# Altium integrated library Infineon_Power_MOSFET.IntLib: 1448 symbols (part 23 of 47)
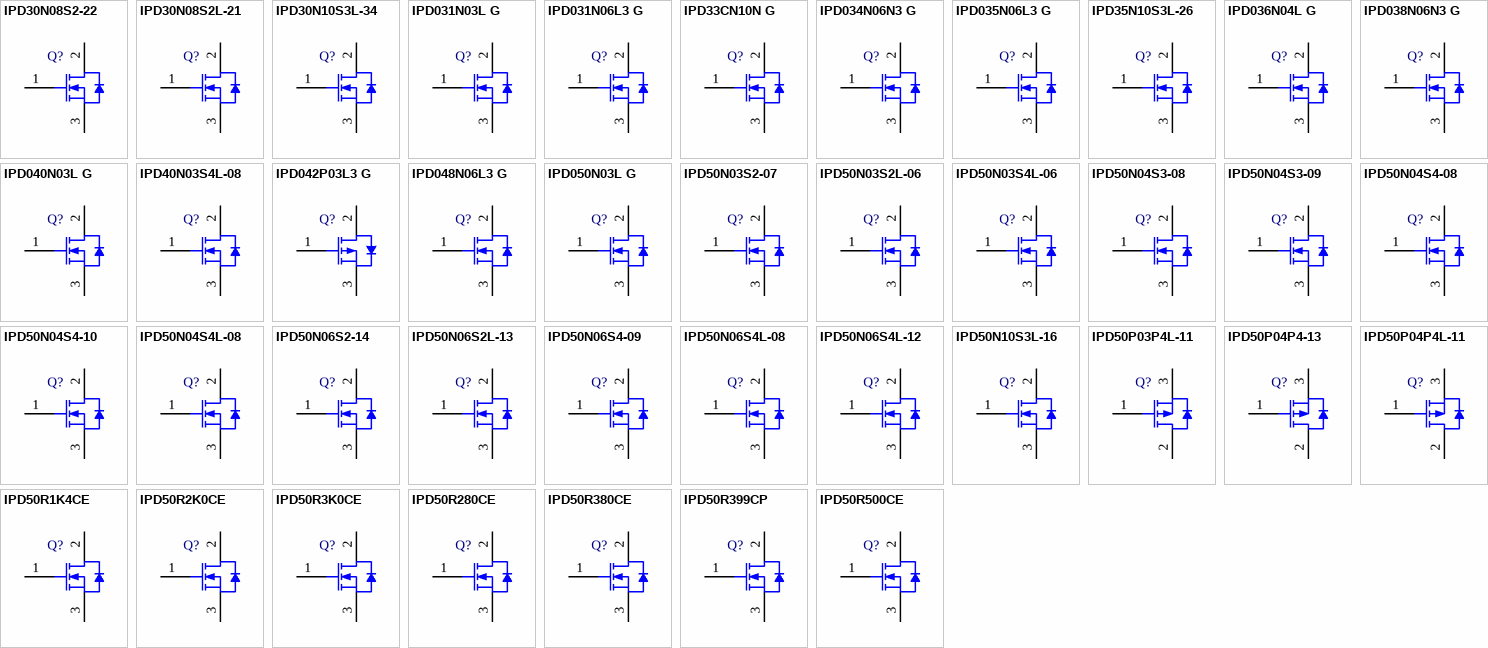
[diagram p59: symbols IPD30N08S2-22 to IPD50R500CE]

## IPD042P03L3 G
designator Q?
P-Channel OptiMOS P3 Power-Transistor, -30 V VDS, -70 A ID, -55 to 175 degC, PG-TO252-3-1, Reel, Green; Manufacturer: Infineon; PartNumber: IPD042P03L3 G; Green: TRUE; ID (max): -70 A; IDpuls (max): -280 A; Pto t (max): 150 W; QG: 131 nC; RDS (on) (max): 4.2 mOhm; RDS (on) (max) (@4.5V): 6.8 mOhm; Rth: 1 K/W; VDS (max): -30 V; VGS(th) (max): -1 V; VGS(th) (min): -2 V; DatasheetVersion: Rev. 2.0; PackageVersion: Jan-10; PackageReference: PG-TO252-3-1; PackageDescription: 3-Pin Plastic (Green) Transistor Single Outline Package, 6.5 x 6.12 mm Body, 2.28 mm Pitch; Supplier 1: Mouser; Supplier Part Number 1: 726-IPD042P03L3G; Supplier 2: Newark; Supplier Part Number 2: 79X1434; Supplier 3: Farnell; Supplier Part Number 3: 2432727; Supplier 4: Digi-Key; Supplier Part Number 4: IPD042P03L3 GTR-ND; Supplier 5: Digi-Key; Supplier Part Number 5: IPD042P03L3 GCT-ND; Supplier 6: Digi-Key; Supplier Part Number 6: IPD042P03L3 GDKR-ND; Packing: Reel; RthJC (max): 1 K/W; Mounting Technology: Surface Mount; ComponentLink1Description: Manufacturer URL; ComponentLink1URL: http://www.infineon.com/; ComponentLink2Description: Datasheet; ComponentLink2URL: http://www.infineon.com/dgdl/IPD042P03L3+G_2+0.pdf?folderId=db3a304314dca38901154a72e3951a65&fileId=db3a30431d8a6b3c011d90c8c6e60425; ComponentLink3Description: Package Specification; ComponentLink3URL: http://www.infineon.com/dgdl/TLE42744_DS_11.pdf?folderId=db3a304318f3fe290118f5a433570040&fileId=db3a304327b897500128012ccafe37d2&sId=db3a30443d67b5ca013d83f7c0ea327b
footprint INF-PG-TO252-3-1_N (DPAK, 3-Leads, Body 6.525x6.12mm, Pitch 2.28mm, IPC Medium Density)
footprint INF-PG-TO252-3-1_L (DPAK, 3-Leads, Body 6.525x6.12mm, Pitch 2.28mm, IPC High Density)
footprint INF-PG-TO252-3-1_M (DPAK, 3-Leads, Body 6.525x6.12mm, Pitch 2.28mm, IPC Low Density)
pins: 1 GATE, 2 DRAIN, 3 SOURCE

## IPD048N06L3 G
designator Q?
N-Channel OptiMOS 3 Power-Transistor, 60 V VDS, 90 A ID, -55 to 175 degC, PG-TO252-3-11, Reel, Green; Manufacturer: Infineon; PartNumber: IPD048N06L3 G; Green: TRUE; ID (max): 90 A; IDpuls (max): 360 A; Polarity: N; Ptot (max): 115 W; QG: 37 nC; RDS (on) (max): 4.8 mOhm; RDS (on) (max) (@4.5V): 8.2 mOhm; Rth: 1.3 K/W; RthJA (max): 62 K/W; VDS (max): 60 V; VGS(th) (max): 2.2 V; VGS(th) (min): 1.2 V; DatasheetVersion: Rev. 2.0; PackageVersion: Rev. 02, 03/2007; PackageReference: PG-TO252-3-11; PackageDescription: 3-Pin Plastic (Green) Transistor Single Outline Package, 6.57 x 6.1 mm Body, 2.29 mm Pitch; Supplier 1: Mouser; Supplier Part Number 1: 726-IPD048N06L3G; Supplier 2: Digi-Key; Supplier Part Number 2: IPD048N06L3 G-ND; Packing: Reel; RthJC (max): 1.3 K/W; Mounting Technology: Surface Mount; ComponentLink1Description: Manufacturer URL; ComponentLink1URL: http://www.infineon.com/; ComponentLink2Description: Datasheet; ComponentLink2URL: http://www.infineon.com/dgdl/IPD048N06L3_Rev2.pdf?folderId=db3a30431441fb5d01148ca9f1be0e77&fileId=db3a30431ddc9372011e2b4f496e4db0; ComponentLink3Description: Package Specification; ComponentLink3URL: http://www.infineon.com/dgdl/IPD160N04L_rev1.0.pdf?folderId=db3a3043163797a6011643468e7505a4&fileId=db3a3043163797a60116436401cf05cf
footprint INF-PG-TO252-3-11_A_N (DPAK, 3-Leads, Body 6.57x6.1mm, Pitch 2.29mm, IPC Medium Density)
footprint INF-PG-TO252-3-11_A_L (DPAK, 3-Leads, Body 6.57x6.1mm, Pitch 2.29mm, IPC High Density)
footprint INF-PG-TO252-3-11_A_M (DPAK, 3-Leads, Body 6.57x6.1mm, Pitch 2.29mm, IPC Low Density)
pins: 1 GATE, 2 DRAIN, 3 SOURCE

## IPD050N03L G
designator Q?
N-Channel OptiMOS 3 Power-Transistor, 30 V VDS, 50 A ID, -55 to 175 degC, PG-TO252-3-11, Reel, Green; Manufacturer: Infineon; PartNumber: IPD050N03L G; Green: TRUE; ID (max): 50 A; IDpuls (max): 350 A; Polarity: N; Ptot (max): 68 W; QG: 15 nC; RDS (on) (max): 5 mOhm; RDS (on) (max) (@4.5V): 7.3 mOhm; Rth: 2.2 K/W; RthJA (max): 75 K/W; VDS (max): 30 V; VGS(th) (max): 2.2 V; VGS(th) (min): 1 V; DatasheetVersion: Rev. 1.02; PackageVersion: Rev. 02, 03/2007; PackageReference: PG-TO252-3-11; PackageDescription: 3-Pin Plastic (Green) Transistor Single Outline Package, 6.57 x 6.1 mm Body, 2.29 mm Pitch; Supplier 1: Mouser; Supplier Part Number 1: 726-IPD050N03LG; Supplier 2: Digi-Key; Supplier Part Number 2: IPD050N03LGINTR-ND; Supplier 3: Digi-Key; Supplier Part Number 3: IPD050N03LGINCT-ND; Supplier 4: Digi-Key; Supplier Part Number 4: IPD050N03LGINDKR-ND; Halogen-free: TRUE; Packing: Reel; RthJC (max): 2.2 K/W; Mounting Technology: Surface Mount; ComponentLink1Description: Manufacturer URL; ComponentLink1URL: http://www.infineon.com/; ComponentLink2Description: Datasheet; ComponentLink2URL: http://www.infineon.com/dgdl/IPD050N03LG_rev1%5B1%5D2.pdf?folderId=db3a304313b8b5a60113cee8763b02d7&fileId=db3a30432313ff5e01239e47dbfe701f; ComponentLink3Description: Package Specification; ComponentLink3URL: http://www.infineon.com/dgdl/IPD160N04L_rev1.0.pdf?folderId=db3a3043163797a6011643468e7505a4&fileId=db3a3043163797a60116436401cf05cf
footprint INF-PG-TO252-3-11_A_N (DPAK, 3-Leads, Body 6.57x6.1mm, Pitch 2.29mm, IPC Medium Density)
footprint INF-PG-TO252-3-11_A_L (DPAK, 3-Leads, Body 6.57x6.1mm, Pitch 2.29mm, IPC High Density)
footprint INF-PG-TO252-3-11_A_M (DPAK, 3-Leads, Body 6.57x6.1mm, Pitch 2.29mm, IPC Low Density)
pins: 1 GATE, 2 DRAIN, 3 SOURCE

## IPD50N03S2-07
designator Q?
OptiMOS Power-Transistor, 30 V VDS, 50 A ID, PG-TO252-3-11, Reel, Green; Manufacturer: Infineon; PartNumber: IPD50N03S2-07; Green: TRUE; ID (max): 50 A; IDpuls (max): 200 A; Ptot (max): 136 W; QG: 52 nC; RDS (on) (max) (@10V): 7.3 mOhm; RthJC (max): 1.1 K/W; VDS (max): 30 V; VGS(th) (max): 4 V; VGS(th) (min): 2.1 V; DatasheetVersion: Rev. 1.0; PackageVersion: Dec-06; PackageReference: PG-TO252-3-11; PackageDescription: 3-Pin Plastic (Green) Transistor Single Outline Package, 6.5 x 6.12 mm Body, 2.28 mm Pitch; Supplier 1: Mouser; Supplier Part Number 1: 726-IPD50N03S2-07; Supplier 2: Digi-Key; Supplier Part Number 2: IPD50N03S2-07-ND; Halogen-free: TRUE; Packing: Reel; Technology: OptiMOS; Mounting Technology: Surface Mount; ComponentLink1Description: Manufacturer URL; ComponentLink1URL: http://www.infineon.com/; ComponentLink2Description: Datasheet; ComponentLink2URL: http://www.infineon.com/dgdl/IPD50N03S2-07_green.pdf?folderId=db3a304412b407950112b426f7da3b27&fileId=db3a304412b407950112b4270d5a3b72&location=en.Products.Automotive_ICs.Automotive_MOSFETs.Single__N-Channel_30V_MOSFETs.DATASHEET.IPD50N03S2-07_green.pdf; ComponentLink3Description: Package Specification; ComponentLink3URL: http://www.infineon.com/dgdl/BTS142_DS_13.pdf?folderId=db3a3043163797a6011667aa084c0e01&fileId=db3a3043163797a6011667ac98be0e02&location=en.Products.Automotive_ICs.Smart_High-_and_Low-Side_Switches.HITFET___TEMPFET__-_Smart_Low-Side_Switches.DATASHEET.BTS142_DS_13.pdf
footprint INF-PG-TO252-3-11_N (DPAK, 3-Leads, Body 6.5x6.12mm, Pitch 2.28mm, IPC Medium Density)
footprint INF-PG-TO252-3-11_L (DPAK, 3-Leads, Body 6.5x6.12mm, Pitch 2.28mm, IPC High Density)
footprint INF-PG-TO252-3-11_M (DPAK, 3-Leads, Body 6.5x6.12mm, Pitch 2.28mm, IPC Low Density)
pins: 1 GATE, 2 DRAIN, 3 SOURCE

## IPD50N03S2L-06
designator Q?
OptiMOS Power-Transistor, 30 V VDS, 50 A ID, PG-TO252-3-11, Reel, Green; Manufacturer: Infineon; PartNumber: IPD50N03S2L-06; Green: TRUE; ID (max): 50 A; IDpuls (max): 200 A; Ptot (max): 136 W; QG: 50 nC; RDS (on) (max) (@10V): 6.4 mOhm; RDS (on) (max) (@4.5V): 9.2 mOhm; RthJC (max): 1.1 K/W; VDS (max): 30 V; VGS(th) (max): 2 V; VGS(th) (min): 1.2 V; DatasheetVersion: Rev. 1.0; PackageVersion: Dec-06; PackageReference: PG-TO252-3-11; PackageDescription: 3-Pin Plastic (Green) Transistor Single Outline Package, 6.5 x 6.12 mm Body, 2.28 mm Pitch; Supplier 1: Mouser; Supplier Part Number 1: 726-IPD50N03S2L-06; Supplier 2: Digi-Key; Supplier Part Number 2: IPD50N03S2L-06-ND; Halogen-free: TRUE; Packing: Reel; Technology: OptiMOS; Mounting Technology: Surface Mount; ComponentLink1Description: Manufacturer URL; ComponentLink1URL: http://www.infineon.com/; ComponentLink2Description: Datasheet; ComponentLink2URL: http://www.infineon.com/dgdl/IPD50N03S2L-06_green.pdf?folderId=db3a304412b407950112b426f7da3b27&fileId=db3a304412b407950112b4270cfc3b6e&location=en.Products.Automotive_ICs.Automotive_MOSFETs.Single__N-Channel_30V_MOSFETs.DATASHEET.IPD50N03S2L-06_green.pdf; ComponentLink3Description: Package Specification; ComponentLink3URL: http://www.infineon.com/dgdl/BTS142_DS_13.pdf?folderId=db3a3043163797a6011667aa084c0e01&fileId=db3a3043163797a6011667ac98be0e02&location=en.Products.Automotive_ICs.Smart_High-_and_Low-Side_Switches.HITFET___TEMPFET__-_Smart_Low-Side_Switches.DATASHEET.BTS142_DS_13.pdf
footprint INF-PG-TO252-3-11_N (DPAK, 3-Leads, Body 6.5x6.12mm, Pitch 2.28mm, IPC Medium Density)
footprint INF-PG-TO252-3-11_L (DPAK, 3-Leads, Body 6.5x6.12mm, Pitch 2.28mm, IPC High Density)
footprint INF-PG-TO252-3-11_M (DPAK, 3-Leads, Body 6.5x6.12mm, Pitch 2.28mm, IPC Low Density)
pins: 1 GATE, 2 DRAIN, 3 SOURCE

## IPD50N03S4L-06
designator Q?
OptiMOS-T2 Power-Transistor, 30 V VDS, 50 A ID, PG-TO252-3-11, Reel, Green; Manufacturer: Infineon; PartNumber: IPD50N03S4L-06; Green: TRUE; ID (max): 50 A; IDpuls (max): 200 A; Ptot (max): 56 W; QG: 24 nC; RDS (on) (max) (@10V): 5.5 mOhm; RDS (on) (max) (@4.5V): 9 mOhm; RthJC (max): 2.7 K/W; VDS (max): 30 V; VGS(th) (max): 2.2 V; VGS(th) (min): 1 V; DatasheetVersion: Rev. 1.1; PackageVersion: Dec-06; PackageReference: PG-TO252-3-11; PackageDescription: 3-Pin Plastic (Green) Transistor Single Outline Package, 6.5 x 6.12 mm Body, 2.28 mm Pitch; Supplier 1: Mouser; Supplier Part Number 1: 726-IPD50N03S4L-06; Halogen-free: TRUE; Packing: Reel; Technology: OptiMOS-T2; Mounting Technology: Surface Mount; ComponentLink1Description: Manufacturer URL; ComponentLink1URL: http://www.infineon.com/; ComponentLink2Description: Datasheet; ComponentLink2URL: http://www.infineon.com/dgdl/IPD50N03S4L-06_DS_1_1.pdf?folderId=db3a304412b407950112b426f7da3b27&fileId=db3a30432313ff5e01239e153f3a6ffb&location=en.Products.Automotive_ICs.Automotive_MOSFETs.Single__N-Channel_30V_MOSFETs.DATASHEET.IPD50N03S4L-06_DS_1_1.pdf; ComponentLink3Description: Package Specification; ComponentLink3URL: http://www.infineon.com/dgdl/BTS142_DS_13.pdf?folderId=db3a3043163797a6011667aa084c0e01&fileId=db3a3043163797a6011667ac98be0e02&location=en.Products.Automotive_ICs.Smart_High-_and_Low-Side_Switches.HITFET___TEMPFET__-_Smart_Low-Side_Switches.DATASHEET.BTS142_DS_13.pdf
footprint INF-PG-TO252-3-11_N (DPAK, 3-Leads, Body 6.5x6.12mm, Pitch 2.28mm, IPC Medium Density)
footprint INF-PG-TO252-3-11_L (DPAK, 3-Leads, Body 6.5x6.12mm, Pitch 2.28mm, IPC High Density)
footprint INF-PG-TO252-3-11_M (DPAK, 3-Leads, Body 6.5x6.12mm, Pitch 2.28mm, IPC Low Density)
pins: 1 GATE, 2 DRAIN, 3 SOURCE

## IPD50N04S3-08
designator Q?
OptiMOS-T Power-Transistor, 40 V VDS, 50 A ID, PG-TO252-3-11, Reel, Green; Manufacturer: Infineon; PartNumber: IPD50N04S3-08; Green: TRUE; ID (max): 50 A; IDpuls (max): 200 A; Ptot (max): 68 W; QG: 27 nC; RDS (on) (max) (@10V): 7.5 mOhm; RthJC (max): 2.2 K/W; VDS (max): 40 V; VGS(th) (max): 4 V; VGS(th) (min): 2.1 V; DatasheetVersion: Rev. 1.0; PackageVersion: Dec-06; PackageReference: PG-TO252-3-11; PackageDescription: 3-Pin Plastic (Green) Transistor Single Outline Package, 6.5 x 6.12 mm Body, 2.28 mm Pitch; Supplier 1: Mouser; Supplier Part Number 1: 726-IPD50N04S3-08; Supplier 2: Digi-Key; Supplier Part Number 2: IPD50N04S3-08TR-ND; Supplier 3: Digi-Key; Supplier Part Number 3: IPD50N04S3-08CT-ND; Supplier 4: Digi-Key; Supplier Part Number 4: IPD50N04S3-08DKR-ND; Halogen-free: TRUE; Packing: Reel; Technology: OptiMOS-T; Mounting Technology: Surface Mount; ComponentLink1Description: Manufacturer URL; ComponentLink1URL: http://www.infineon.com/; ComponentLink2Description: Datasheet; ComponentLink2URL: http://www.infineon.com/dgdl/IPD50N04S3-08_DS_1_0.pdf?folderId=db3a304412b407950112b42b75b74520&fileId=db3a304412b407950112b42ba8f445c6&location=en.Products.Automotive_ICs.Automotive_MOSFETs.Single__N-Channel_40V_MOSFETs.DATASHEET.IPD50N04S3-08_DS_1_0.pdf; ComponentLink3Description: Package Specification; ComponentLink3URL: http://www.infineon.com/dgdl/BTS142_DS_13.pdf?folderId=db3a3043163797a6011667aa084c0e01&fileId=db3a3043163797a6011667ac98be0e02&location=en.Products.Automotive_ICs.Smart_High-_and_Low-Side_Switches.HITFET___TEMPFET__-_Smart_Low-Side_Switches.DATASHEET.BTS142_DS_13.pdf
footprint INF-PG-TO252-3-11_N (DPAK, 3-Leads, Body 6.5x6.12mm, Pitch 2.28mm, IPC Medium Density)
footprint INF-PG-TO252-3-11_L (DPAK, 3-Leads, Body 6.5x6.12mm, Pitch 2.28mm, IPC High Density)
footprint INF-PG-TO252-3-11_M (DPAK, 3-Leads, Body 6.5x6.12mm, Pitch 2.28mm, IPC Low Density)
pins: 1 GATE, 2 DRAIN, 3 SOURCE

## IPD50N04S3-09
designator Q?
OptiMOS-T Power-Transistor, 40 V VDS, 50 A ID, PG-TO252-3-11, Reel, Green; Manufacturer: Infineon; PartNumber: IPD50N04S3-09; Green: TRUE; ID (max): 50 A; IDpuls (max): 200 A; Ptot (max): 63 W; QG: 20 nC; RDS (on) (max) (@10V): 9 mOhm; RDS (on) (max) (@4.5V): 0 mOhm; RthJC (max): 2.4 K/W; VDS (max): 40 V; VGS(th) (max): 4 V; VGS(th) (min): 2.1 V; DatasheetVersion: Rev. 1.1; PackageVersion: Dec-06; PackageReference: PG-TO252-3-11; PackageDescription: 3-Pin Plastic (Green) Transistor Single Outline Package, 6.5 x 6.12 mm Body, 2.28 mm Pitch; Supplier 1: Mouser; Supplier Part Number 1: 726-IPD50N04S3-09; Supplier 2: Digi-Key; Supplier Part Number 2: IPD50N04S3-09-ND; Halogen-free: TRUE; Packing: Reel; Technology: OptiMOS-T; Mounting Technology: Surface Mount; ComponentLink1Description: Manufacturer URL; ComponentLink1URL: http://www.infineon.com/; ComponentLink2Description: Datasheet; ComponentLink2URL: http://www.infineon.com/dgdl/IPD50N04S3-09_DS_1__1.pdf?folderId=db3a304412b407950112b42b75b74520&fileId=db3a30431b3e89eb011bb7664e2d070f&location=en.Products.Automotive_ICs.Automotive_MOSFETs.Single__N-Channel_40V_MOSFETs.DATASHEET.IPD50N04S3-09_DS_1__1.pdf; ComponentLink3Description: Package Specification; ComponentLink3URL: http://www.infineon.com/dgdl/BTS142_DS_13.pdf?folderId=db3a3043163797a6011667aa084c0e01&fileId=db3a3043163797a6011667ac98be0e02&location=en.Products.Automotive_ICs.Smart_High-_and_Low-Side_Switches.HITFET___TEMPFET__-_Smart_Low-Side_Switches.DATASHEET.BTS142_DS_13.pdf
footprint INF-PG-TO252-3-11_N (DPAK, 3-Leads, Body 6.5x6.12mm, Pitch 2.28mm, IPC Medium Density)
footprint INF-PG-TO252-3-11_L (DPAK, 3-Leads, Body 6.5x6.12mm, Pitch 2.28mm, IPC High Density)
footprint INF-PG-TO252-3-11_M (DPAK, 3-Leads, Body 6.5x6.12mm, Pitch 2.28mm, IPC Low Density)
pins: 1 GATE, 2 DRAIN, 3 SOURCE

## IPD50N04S4-08
designator Q?
OptiMOS-T2 Power-Transistor, 40 V VDS, 50 A ID, PG-TO252-3-313, Reel, Green; Manufacturer: Infineon; PartNumber: IPD50N04S4-08; Green: TRUE; ID (max): 50 A; IDpuls (max): 200 A; Ptot (max): 46 W; QG: 17.2 nC; RDS (on) (max) (@10V): 7.9 mOhm; RthJC (max): 3.3 K/W; VDS (max): 40 V; VGS(th) (max): 4 V; VGS(th) (min): 2 V; DatasheetVersion: Rev. 1.0; PackageVersion: Oct-10; PackageReference: PG-TO252-3-313; PackageDescription: 3-Pin Plastic (Green) Transistor Single Outline Package, 6.5 x 6.12 mm Body, 2.28 mm Pitch; Supplier 1: Mouser; Supplier Part Number 1: 726-IPD50N04S4-08; Supplier 2: Digi-Key; Supplier Part Number 2: IPD50N04S4-08-ND; Halogen-free: TRUE; Packing: Reel; Technology: OptiMOS-T2; Mounting Technology: Surface Mount; ComponentLink1Description: Manufacturer URL; ComponentLink1URL: http://www.infineon.com/; ComponentLink2Description: Datasheet; ComponentLink2URL: http://www.infineon.com/dgdl/IPD50N04S4-08_DS_1_0.pdf?folderId=db3a304412b407950112b42b75b74520&fileId=db3a304328c6bd5c01291c847b245e45&location=en.Products.Automotive_ICs.Automotive_MOSFETs.Single__N-Channel_40V_MOSFETs.DATASHEET.IPD50N04S4-08_DS_1_0.pdf; ComponentLink3Description: Package Specification; ComponentLink3URL: http://www.infineon.com/dgdl/PG-TO252-3-313-Package_Overview.pdf?folderId=db3a30432b57a660012b81890ade72d2&fileId=db3a30432b57a660012b8193af2872eb
footprint INF-PG-TO252-3-313_N (DPAK, 3-Leads, Body 6.5x6.12mm, Pitch 2.28mm, IPC Medium Density)
footprint INF-PG-TO252-3-313_L (DPAK, 3-Leads, Body 6.5x6.12mm, Pitch 2.28mm, IPC High Density)
footprint INF-PG-TO252-3-313_M (DPAK, 3-Leads, Body 6.5x6.12mm, Pitch 2.28mm, IPC Low Density)
pins: 1 GATE, 2 DRAIN, 3 SOURCE

## IPD50N04S4-10
designator Q?
OptiMOS-T2 Power-Transistor, 40 V VDS, 50 A ID, PG-TO252-3-313, Reel, Green; Manufacturer: Infineon; PartNumber: IPD50N04S4-10; Green: TRUE; ID (max): 50 A; IDpuls (max): 200 A; Ptot (max): 41 W; QG: 14 nC; RDS (on) (max) (@10V): 9.3 mOhm; RthJC (max): 3.7 K/W; VDS (max): 40 V; VGS(th) (max): 4 V; VGS(th) (min): 2 V; DatasheetVersion: Rev. 1.0; PackageVersion: Oct-10; PackageReference: PG-TO252-3-313; PackageDescription: 3-Pin Plastic (Green) Transistor Single Outline Package, 6.5 x 6.12 mm Body, 2.28 mm Pitch; Supplier 1: Mouser; Supplier Part Number 1: 726-IPD50N04S4-10; Supplier 2: Digi-Key; Supplier Part Number 2: IPD50N04S4-10-ND; Halogen-free: TRUE; Packing: Reel; Technology: OptiMOS-T2; Mounting Technology: Surface Mount; ComponentLink1Description: Manufacturer URL; ComponentLink1URL: http://www.infineon.com/; ComponentLink2Description: Datasheet; ComponentLink2URL: http://www.infineon.com/dgdl/IPD50N04S4-10_DS_1_0.pdf?folderId=db3a304412b407950112b42b75b74520&fileId=db3a304328c6bd5c01291c862acb5e4b&location=en.Products.Automotive_ICs.Automotive_MOSFETs.Single__N-Channel_40V_MOSFETs.DATASHEET.IPD50N04S4-10_DS_1_0.pdf; ComponentLink3Description: Package Specification; ComponentLink3URL: http://www.infineon.com/dgdl/PG-TO252-3-313-Package_Overview.pdf?folderId=db3a30432b57a660012b81890ade72d2&fileId=db3a30432b57a660012b8193af2872eb
footprint INF-PG-TO252-3-313_N (DPAK, 3-Leads, Body 6.5x6.12mm, Pitch 2.28mm, IPC Medium Density)
footprint INF-PG-TO252-3-313_L (DPAK, 3-Leads, Body 6.5x6.12mm, Pitch 2.28mm, IPC High Density)
footprint INF-PG-TO252-3-313_M (DPAK, 3-Leads, Body 6.5x6.12mm, Pitch 2.28mm, IPC Low Density)
pins: 1 GATE, 2 DRAIN, 3 SOURCE

## IPD50N04S4L-08
designator Q?
OptiMOS-T2 Power-Transistor, 40 V VDS, 50 A ID, PG-TO252-3-313, Reel, Green; Manufacturer: Infineon; PartNumber: IPD50N04S4L-08; Green: TRUE; ID (max): 50 A; IDpuls (max): 200 A; Ptot (max): 46 W; QG: 23 nC; RDS (on) (max) (@10V): 7.3 mOhm; RDS (on) (max) (@4.5V): 10.5 mOhm; RthJC (max): 3.3 K/W; VDS (max): 40 V; VGS(th) (max): 2 V; VGS(th) (min): 1.2 V; DatasheetVersion: Rev. 1.0; PackageVersion: Oct-10; PackageReference: PG-TO252-3-313; PackageDescription: 3-Pin Plastic (Green) Transistor Single Outline Package, 6.5 x 6.12 mm Body, 2.28 mm Pitch; Supplier 1: Mouser; Supplier Part Number 1: 726-IPD50N04S4L-08; Supplier 2: Digi-Key; Supplier Part Number 2: IPD50N04S4L-08-ND; Halogen-free: TRUE; Packing: Reel; Technology: OptiMOS-T2; Mounting Technology: Surface Mount; ComponentLink1Description: Manufacturer URL; ComponentLink1URL: http://www.infineon.com/; ComponentLink2Description: Datasheet; ComponentLink2URL: http://www.infineon.com/dgdl/IPD50N04S4L-08_DS_1_0.pdf?folderId=db3a304412b407950112b42b75b74520&fileId=db3a304328c6bd5c01291c87fdc25e50&location=en.Products.Automotive_ICs.Automotive_MOSFETs.Single__N-Channel_40V_MOSFETs.DATASHEET.IPD50N04S4L-08_DS_1_0.pdf; ComponentLink3Description: Package Specification; ComponentLink3URL: http://www.infineon.com/dgdl/PG-TO252-3-313-Package_Overview.pdf?folderId=db3a30432b57a660012b81890ade72d2&fileId=db3a30432b57a660012b8193af2872eb
footprint INF-PG-TO252-3-313_N (DPAK, 3-Leads, Body 6.5x6.12mm, Pitch 2.28mm, IPC Medium Density)
footprint INF-PG-TO252-3-313_L (DPAK, 3-Leads, Body 6.5x6.12mm, Pitch 2.28mm, IPC High Density)
footprint INF-PG-TO252-3-313_M (DPAK, 3-Leads, Body 6.5x6.12mm, Pitch 2.28mm, IPC Low Density)
pins: 1 GATE, 2 DRAIN, 3 SOURCE

## IPD50N06S2-14
designator Q?
OptiMOS Power-Transistor, 55 V VDS, 50 A ID, PG-TO252-3-11, Reel, Green; Manufacturer: Infineon; PartNumber: IPD50N06S2-14; Green: TRUE; ID (max): 50 A; IDpuls (max): 200 A; Ptot (max): 136 W; QG: 39 nC; RDS (on) (max) (@10V): 14.4 mOhm; RthJC (max): 1.1 K/W; VDS (max): 55 V; VGS(th) (max): 4 V; VGS(th) (min): 2.1 V; DatasheetVersion: Rev. 1.1; PackageVersion: Dec-06; PackageReference: PG-TO252-3-11; PackageDescription: 3-Pin Plastic (Green) Transistor Single Outline Package, 6.5 x 6.12 mm Body, 2.28 mm Pitch; Supplier 1: Mouser; Supplier Part Number 1: 726-IPD50N06S2-14; Supplier 2: Digi-Key; Supplier Part Number 2: IPD50N06S2-14-ND; Halogen-free: TRUE; Packing: Reel; Technology: OptiMOS; Mounting Technology: Surface Mount; ComponentLink1Description: Manufacturer URL; ComponentLink1URL: http://www.infineon.com/; ComponentLink2Description: Datasheet; ComponentLink2URL: http://www.infineon.com/dgdl/IPD50N06S2-14_green_DS_1_1.pdf?folderId=db3a304412b407950112b4322c6d574b&fileId=db3a304412b407950112b43351315b1a&location=en.Products.Automotive_ICs.Automotive_MOSFETs.Single__N-Channel_55V_MOSFETs.DATASHEET.IPD50N06S2-14_green_DS_1_1.pdf; ComponentLink3Description: Package Specification; ComponentLink3URL: http://www.infineon.com/dgdl/BTS142_DS_13.pdf?folderId=db3a3043163797a6011667aa084c0e01&fileId=db3a3043163797a6011667ac98be0e02&location=en.Products.Automotive_ICs.Smart_High-_and_Low-Side_Switches.HITFET___TEMPFET__-_Smart_Low-Side_Switches.DATASHEET.BTS142_DS_13.pdf
footprint INF-PG-TO252-3-11_N (DPAK, 3-Leads, Body 6.5x6.12mm, Pitch 2.28mm, IPC Medium Density)
footprint INF-PG-TO252-3-11_L (DPAK, 3-Leads, Body 6.5x6.12mm, Pitch 2.28mm, IPC High Density)
footprint INF-PG-TO252-3-11_M (DPAK, 3-Leads, Body 6.5x6.12mm, Pitch 2.28mm, IPC Low Density)
pins: 1 GATE, 2 DRAIN, 3 SOURCE

## IPD50N06S2L-13
designator Q?
OptiMOS Power-Transistor, 55 V VDS, 50 A ID, PG-TO252-3-11, Green; Manufacturer: Infineon; PartNumber: IPD50N06S2L-13; Green: TRUE; ID (max): 50 A; IDpuls (max): 200 A; Ptot (max): 136 W; QG: 54 nC; RDS (on) (max) (@10V): 12.7 mOhm; RDS (on) (max) (@4.5V): 16.7 mOhm; RthJC (max): 1.1 K/W; VDS (max): 55 V; VGS(th) (max): 2 V; VGS(th) (min): 1.2 V; DatasheetVersion: Rev. 1.0; PackageVersion: Dec-06; PackageReference: PG-TO252-3-11; PackageDescription: 3-Pin Plastic (Green) Transistor Single Outline Package, 6.5 x 6.12 mm Body, 2.28 mm Pitch; Supplier 1: Mouser; Supplier Part Number 1: 726-IPD50N06S2L-13; Supplier 2: Digi-Key; Supplier Part Number 2: IPD50N06S2L-13-ND; Halogen-free: TRUE; Technology: OptiMOS; Mounting Technology: Surface Mount; ComponentLink1Description: Manufacturer URL; ComponentLink1URL: http://www.infineon.com/; ComponentLink2Description: Datasheet; ComponentLink2URL: http://www.infineon.com/dgdl/IPD50N06S2L-13_green.pdf?folderId=db3a304412b407950112b4322c6d574b&fileId=db3a304412b407950112b433e8e55e1a&location=en.Products.Automotive_ICs.Automotive_MOSFETs.Single__N-Channel_55V_MOSFETs.DATASHEET.IPD50N06S2L-13_green.pdf; ComponentLink3Description: Package Specification; ComponentLink3URL: http://www.infineon.com/dgdl/BTS142_DS_13.pdf?folderId=db3a3043163797a6011667aa084c0e01&fileId=db3a3043163797a6011667ac98be0e02&location=en.Products.Automotive_ICs.Smart_High-_and_Low-Side_Switches.HITFET___TEMPFET__-_Smart_Low-Side_Switches.DATASHEET.BTS142_DS_13.pdf
footprint INF-PG-TO252-3-11_N (DPAK, 3-Leads, Body 6.5x6.12mm, Pitch 2.28mm, IPC Medium Density)
footprint INF-PG-TO252-3-11_L (DPAK, 3-Leads, Body 6.5x6.12mm, Pitch 2.28mm, IPC High Density)
footprint INF-PG-TO252-3-11_M (DPAK, 3-Leads, Body 6.5x6.12mm, Pitch 2.28mm, IPC Low Density)
pins: 1 GATE, 2 DRAIN, 3 SOURCE

## IPD50N06S4-09
designator Q?
OptiMOS-T2 Power-Transistor, 60 V VDS, 50 A ID, PG-TO252-3-11, Reel, Green; Manufacturer: Infineon; PartNumber: IPD50N06S4-09; Green: TRUE; ID (max): 50 A; IDpuls (max): 200 A; Ptot (max): 71 W; QG: 36 nC; RDS (on) (max) (@10V): 9 mOhm; RthJC (max): 2.1 K/W; VDS (max): 60 V; VGS(th) (max): 4 V; VGS(th) (min): 2 V; DatasheetVersion: Rev. 1.2; PackageVersion: Dec-06; PackageReference: PG-TO252-3-11; PackageDescription: 3-Pin Plastic (Green) Transistor Single Outline Package, 6.5 x 6.12 mm Body, 2.28 mm Pitch; Supplier 1: Mouser; Supplier Part Number 1: 726-IPD50N06S4-09; Supplier 2: Digi-Key; Supplier Part Number 2: IPD50N06S4-09-ND; Halogen-free: TRUE; Packing: Reel; Technology: OptiMOS-T2; Mounting Technology: Surface Mount; ComponentLink1Description: Manufacturer URL; ComponentLink1URL: http://www.infineon.com/; ComponentLink2Description: Datasheet; ComponentLink2URL: http://www.infineon.com/dgdl/IPD50N06S4-09_DS_12.pdf?folderId=db3a30431a5c32f2011a8084a04a6500&fileId=db3a30431ff9881501203870aee40c8c&location=en.Products.Automotive_ICs.Automotive_MOSFETs.Single__N-Channel_60V_MOSFETs.DATASHEET.IPD50N06S4-09_DS_12.pdf; ComponentLink3Description: Package Specification; ComponentLink3URL: http://www.infineon.com/dgdl/BTS142_DS_13.pdf?folderId=db3a3043163797a6011667aa084c0e01&fileId=db3a3043163797a6011667ac98be0e02&location=en.Products.Automotive_ICs.Smart_High-_and_Low-Side_Switches.HITFET___TEMPFET__-_Smart_Low-Side_Switches.DATASHEET.BTS142_DS_13.pdf
footprint INF-PG-TO252-3-11_N (DPAK, 3-Leads, Body 6.5x6.12mm, Pitch 2.28mm, IPC Medium Density)
footprint INF-PG-TO252-3-11_L (DPAK, 3-Leads, Body 6.5x6.12mm, Pitch 2.28mm, IPC High Density)
footprint INF-PG-TO252-3-11_M (DPAK, 3-Leads, Body 6.5x6.12mm, Pitch 2.28mm, IPC Low Density)
pins: 1 GATE, 2 DRAIN, 3 SOURCE

## IPD50N06S4L-08
designator Q?
OptiMOS-T2 Power-Transistor, 60 V VDS, 50 A ID, PG-TO252-3-11, Reel, Green; Manufacturer: Infineon; PartNumber: IPD50N06S4L-08; Green: TRUE; ID (max): 50 A; IDpuls (max): 200 A; Ptot (max): 71 W; QG: 49 nC; RDS (on) (max) (@10V): 7.8 mOhm; RDS (on) (max) (@4.5V): 13.5 mOhm; RthJC (max): 2.1 K/W; VDS (max): 60 V; VGS(th) (max): 2.2 V; VGS(th) (min): 1.2 V; DatasheetVersion: Rev. 1.0; PackageVersion: Dec-06; PackageReference: PG-TO252-3-11; PackageDescription: 3-Pin Plastic (Green) Transistor Single Outline Package, 6.5 x 6.12 mm Body, 2.28 mm Pitch; Supplier 1: Mouser; Supplier Part Number 1: 726-IPD50N06S4L-08; Supplier 2: Digi-Key; Supplier Part Number 2: IPD50N06S4L-08-ND; Halogen-free: TRUE; Packing: Reel; Technology: OptiMOS-T2; Mounting Technology: Surface Mount; ComponentLink1Description: Manufacturer URL; ComponentLink1URL: http://www.infineon.com/; ComponentLink2Description: Datasheet; ComponentLink2URL: http://www.infineon.com/dgdl/IPD50N06S4L-08_DS_10.pdf?folderId=db3a30431a5c32f2011a8084a04a6500&fileId=db3a30431ff9881501203883bbb90c9b&location=en.Products.Automotive_ICs.Automotive_MOSFETs.Single__N-Channel_60V_MOSFETs.DATASHEET.IPD50N06S4L-08_DS_10.pdf; ComponentLink3Description: Package Specification; ComponentLink3URL: http://www.infineon.com/dgdl/BTS142_DS_13.pdf?folderId=db3a3043163797a6011667aa084c0e01&fileId=db3a3043163797a6011667ac98be0e02&location=en.Products.Automotive_ICs.Smart_High-_and_Low-Side_Switches.HITFET___TEMPFET__-_Smart_Low-Side_Switches.DATASHEET.BTS142_DS_13.pdf
footprint INF-PG-TO252-3-11_N (DPAK, 3-Leads, Body 6.5x6.12mm, Pitch 2.28mm, IPC Medium Density)
footprint INF-PG-TO252-3-11_L (DPAK, 3-Leads, Body 6.5x6.12mm, Pitch 2.28mm, IPC High Density)
footprint INF-PG-TO252-3-11_M (DPAK, 3-Leads, Body 6.5x6.12mm, Pitch 2.28mm, IPC Low Density)
pins: 1 GATE, 2 DRAIN, 3 SOURCE

## IPD50N06S4L-12
designator Q?
OptiMOS-T2 Power-Transistor, 60 V VDS, 50 A ID, PG-TO252-3-11, Reel, Green; Manufacturer: Infineon; PartNumber: IPD50N06S4L-12; Green: TRUE; ID (max): 50 A; IDpuls (max): 200 A; Ptot (max): 50 W; QG: 30 nC; RDS (on) (max) (@10V): 12 mOhm; RDS (on) (max) (@4.5V): 21.6 mOhm; RthJC (max): 3 K/W; VDS (max): 60 V; VGS(th) (max): 2.2 V; VGS(th) (min): 1.2 V; DatasheetVersion: Rev. 1.0; PackageVersion: Dec-06; PackageReference: PG-TO252-3-11; PackageDescription: 3-Pin Plastic (Green) Transistor Single Outline Package, 6.5 x 6.12 mm Body, 2.28 mm Pitch; Supplier 1: Mouser; Supplier Part Number 1: 726-IPD50N06S4L-12; Supplier 2: Digi-Key; Supplier Part Number 2: IPD50N06S4L-12-ND; Halogen-free: TRUE; Packing: Reel; Technology: OptiMOS-T2; Mounting Technology: Surface Mount; ComponentLink1Description: Manufacturer URL; ComponentLink1URL: http://www.infineon.com/; ComponentLink2Description: Datasheet; ComponentLink2URL: http://www.infineon.com/dgdl/IPD50N06S4L-12_DS_10.pdf?folderId=db3a30431a5c32f2011a8084a04a6500&fileId=db3a30431ff9881501203885cc580ca0&location=en.Products.Automotive_ICs.Automotive_MOSFETs.Single__N-Channel_60V_MOSFETs.DATASHEET.IPD50N06S4L-12_DS_10.pdf; ComponentLink3Description: Package Specification; ComponentLink3URL: http://www.infineon.com/dgdl/BTS142_DS_13.pdf?folderId=db3a3043163797a6011667aa084c0e01&fileId=db3a3043163797a6011667ac98be0e02&location=en.Products.Automotive_ICs.Smart_High-_and_Low-Side_Switches.HITFET___TEMPFET__-_Smart_Low-Side_Switches.DATASHEET.BTS142_DS_13.pdf
footprint INF-PG-TO252-3-11_N (DPAK, 3-Leads, Body 6.5x6.12mm, Pitch 2.28mm, IPC Medium Density)
footprint INF-PG-TO252-3-11_L (DPAK, 3-Leads, Body 6.5x6.12mm, Pitch 2.28mm, IPC High Density)
footprint INF-PG-TO252-3-11_M (DPAK, 3-Leads, Body 6.5x6.12mm, Pitch 2.28mm, IPC Low Density)
pins: 1 GATE, 2 DRAIN, 3 SOURCE

## IPD50N10S3L-16
designator Q?
OptiMOS-T Power-Transistor, 100 V VDS, 50 A ID, PG-TO252-3-11, Reel, Green; Manufacturer: Infineon; PartNumber: IPD50N10S3L-16; Green: TRUE; ID (max): 50 A; IDpuls (max): 200 A; Ptot (max): 100 W; QG: 49 nC; RDS (on) (max) (@10V): 15 mOhm; RDS (on) (max) (@4.5V): 19.9 mOhm; RthJC (max): 1.5 K/W; VDS (max): 100 V; VGS(th) (max): 2.4 V; VGS(th) (min): 1.2 V; DatasheetVersion: Rev. 1.2; PackageVersion: Dec-06; PackageReference: PG-TO252-3-11; PackageDescription: 3-Pin Plastic (Green) Transistor Single Outline Package, 6.5 x 6.12 mm Body, 2.28 mm Pitch; Supplier 1: Mouser; Supplier Part Number 1: 726-IPD50N10S3L16; Supplier 2: Digi-Key; Supplier Part Number 2: IPD50N10S3L-16TR-ND; Supplier 3: Digi-Key; Supplier Part Number 3: IPD50N10S3L-16CT-ND; Supplier 4: Digi-Key; Supplier Part Number 4: IPD50N10S3L-16DKR-ND; Halogen-free: TRUE; Packing: Reel; Technology: OptiMOS-T; Mounting Technology: Surface Mount; ComponentLink1Description: Manufacturer URL; ComponentLink1URL: http://www.infineon.com/; ComponentLink2Description: Datasheet; ComponentLink2URL: http://www.infineon.com/dgdl/IPD50N10S3L-16_DS_1_2.pdf?folderId=db3a3043156fd5730115c7d50620107c&fileId=db3a30431a5c32f2011a908698d3594e&location=en.Products.Automotive_ICs.Automotive_MOSFETs.Single__N-Channel_100V_MOSFETs.DATASHEET.IPD50N10S3L-16_DS_1_2.pdf; ComponentLink3Description: Package Specification; ComponentLink3URL: http://www.infineon.com/dgdl/BTS142_DS_13.pdf?folderId=db3a3043163797a6011667aa084c0e01&fileId=db3a3043163797a6011667ac98be0e02&location=en.Products.Automotive_ICs.Smart_High-_and_Low-Side_Switches.HITFET___TEMPFET__-_Smart_Low-Side_Switches.DATASHEET.BTS142_DS_13.pdf
footprint INF-PG-TO252-3-11_N (DPAK, 3-Leads, Body 6.5x6.12mm, Pitch 2.28mm, IPC Medium Density)
footprint INF-PG-TO252-3-11_L (DPAK, 3-Leads, Body 6.5x6.12mm, Pitch 2.28mm, IPC High Density)
footprint INF-PG-TO252-3-11_M (DPAK, 3-Leads, Body 6.5x6.12mm, Pitch 2.28mm, IPC Low Density)
pins: 1 GATE, 2 DRAIN, 3 SOURCE

## IPD50P03P4L-11
designator Q?
OptiMOS-P2 Power-Transistor, -30 V VDS, -50 A ID, PG-TO252-3-11, Reel, Green; Manufacturer: Infineon; PartNumber: IPD50P03P4L-11; Green: TRUE; ID (max): -50 A; IDpuls (max): -200 A; Ptot (max): 58 W; QG: 42 nC; RDS (on) (max) (@10V): 10.5 mOhm; RDS (on) (max) (@4.5V): 18 mOhm; RthJC (max): 2.6 K/W; VDS (max): -30 V; VGS(th) (max): -2 V; VGS(th) (min): -1 V; DatasheetVersion: Rev. 1.1; PackageVersion: Dec-06; PackageReference: PG-TO252-3-11; PackageDescription: 3-Pin Plastic (Green) Transistor Single Outline Package, 6.5 x 6.12 mm Body, 2.28 mm Pitch; Supplier 1: Mouser; Supplier Part Number 1: 726-IPD50P03P4L11; Supplier 2: Digi-Key; Supplier Part Number 2: IPD50P03P4L-11INTR-ND; Supplier 3: Digi-Key; Supplier Part Number 3: IPD50P03P4L-11INCT-ND; Supplier 4: Digi-Key; Supplier Part Number 4: IPD50P03P4L-11INDKR-ND; Halogen-free: TRUE; Packing: Reel; Technology: OptiMOS-P2; Mounting Technology: Surface Mount; ComponentLink1Description: Manufacturer URL; ComponentLink1URL: http://www.infineon.com/; ComponentLink2Description: Datasheet; ComponentLink2URL: http://www.infineon.com/dgdl/IPD50P03P4L-11_DS_11.pdf?folderId=db3a304314dca3890114ef902baa05f9&fileId=db3a30431ddc9372011e07ebbe0127e8&location=en.Products.Automotive_ICs.Automotive_MOSFETs.Single__P-Channel_30V_MOSFETs.DATASHEET.IPD50P03P4L-11_DS_11.pdf; ComponentLink3Description: Package Specification; ComponentLink3URL: http://www.infineon.com/dgdl/BTS142_DS_13.pdf?folderId=db3a3043163797a6011667aa084c0e01&fileId=db3a3043163797a6011667ac98be0e02&location=en.Products.Automotive_ICs.Smart_High-_and_Low-Side_Switches.HITFET___TEMPFET__-_Smart_Low-Side_Switches.DATASHEET.BTS142_DS_13.pdf
footprint INF-PG-TO252-3-11_N (DPAK, 3-Leads, Body 6.5x6.12mm, Pitch 2.28mm, IPC Medium Density)
footprint INF-PG-TO252-3-11_L (DPAK, 3-Leads, Body 6.5x6.12mm, Pitch 2.28mm, IPC High Density)
footprint INF-PG-TO252-3-11_M (DPAK, 3-Leads, Body 6.5x6.12mm, Pitch 2.28mm, IPC Low Density)
pins: 1 GATE, 2 DRAIN, 3 SOURCE

## IPD50P04P4-13
designator Q?
OptiMOS-P2 Power-Transistor, -40 V VDS, -50 A ID, PG-TO252-3-313, Reel, Green; Manufacturer: Infineon; PartNumber: IPD50P04P4-13; Green: TRUE; ID (max): -50 A; IDpuls (max): -20 A; Ptot (max): 58 W; QG: 39 nC; RDS (on) (max) (@10V): 12.6 mOhm; RthJC (max): 2.6 K/W; VDS (max): -40 V; VGS(th) (max): -4 V; VGS(th) (min): -2 V; DatasheetVersion: Rev. 1.0; PackageVersion: Oct-10; PackageReference: PG-TO252-3-313; PackageDescription: 3-Pin Plastic (Green) Transistor Single Outline Package, 6.5 x 6.12 mm Body, 2.28 mm Pitch; Supplier 1: Mouser; Supplier Part Number 1: 726-IPD50P04P4-13; Halogen-free: TRUE; Packing: Reel; Technology: OptiMOS-P2; Mounting Technology: Surface Mount; ComponentLink1Description: Manufacturer URL; ComponentLink1URL: http://www.infineon.com/; ComponentLink2Description: Datasheet; ComponentLink2URL: http://www.infineon.com/dgdl/IPD50P04P4-13_DS_10.pdf?folderId=db3a304412b407950112b42b75b74520&fileId=db3a30432f69f146012f781f908b2da3&location=en.Products.Automotive_ICs.Automotive_MOSFETs.Single__P-Channel_40V_MOSFETs.DATASHEET.IPD50P04P4-13_DS_10.pdf; ComponentLink3Description: Package Specification; ComponentLink3URL: http://www.infineon.com/dgdl/PG-TO252-3-313-Package_Overview.pdf?folderId=db3a30432b57a660012b81890ade72d2&fileId=db3a30432b57a660012b8193af2872eb
footprint INF-PG-TO252-3-313_N (DPAK, 3-Leads, Body 6.5x6.12mm, Pitch 2.28mm, IPC Medium Density)
footprint INF-PG-TO252-3-313_L (DPAK, 3-Leads, Body 6.5x6.12mm, Pitch 2.28mm, IPC High Density)
footprint INF-PG-TO252-3-313_M (DPAK, 3-Leads, Body 6.5x6.12mm, Pitch 2.28mm, IPC Low Density)
pins: 1 GATE, 2 DRAIN, 3 SOURCE

## IPD50P04P4L-11
designator Q?
OptiMOS-P2 Power-Transistor, -40 V VDS, -50 A ID, PG-TO252-3-313, Reel, Green; Manufacturer: Infineon; PartNumber: IPD50P04P4L-11; Green: TRUE; ID (max): -50 A; IDpuls (max): -200 A; Ptot (max): 58 W; QG: 59 nC; RDS (on) (max) (@10V): 10.6 mOhm; RDS (on) (max) (@4.5V): 17.2 mOhm; RthJC (max): 2.6 K/W; VDS (max): -40 V; VGS(th) (max): -2.2 V; VGS(th) (min): -1.2 V; DatasheetVersion: Rev. 1.0; PackageVersion: Oct-10; PackageReference: PG-TO252-3-313; PackageDescription: 3-Pin Plastic (Green) Transistor Single Outline Package, 6.5 x 6.12 mm Body, 2.28 mm Pitch; Supplier 1: Mouser; Supplier Part Number 1: 726-IPD50P04P4L-11; Supplier 2: Digi-Key; Supplier Part Number 2: IPD50P04P4L-11TR-ND; Supplier 3: Digi-Key; Supplier Part Number 3: IPD50P04P4L-11CT-ND; Supplier 4: Digi-Key; Supplier Part Number 4: IPD50P04P4L-11DKR-ND; Halogen-free: TRUE; Packing: Reel; Technology: OptiMOS-P2; Mounting Technology: Surface Mount; ComponentLink1Description: Manufacturer URL; ComponentLink1URL: http://www.infineon.com/; ComponentLink2Description: Datasheet; ComponentLink2URL: http://www.infineon.com/dgdl/IPD50P04P4L-11-Data+Sheet-Infineon-v10.pdf?folderId=db3a304412b407950112b42b75b74520&fileId=db3a304329a0f6ee0129db9d1df05c58&sId=db3a30433d68e984013d88b115b712d0; ComponentLink3Description: Package Specification; ComponentLink3URL: http://www.infineon.com/dgdl/PG-TO252-3-313-Package_Overview.pdf?folderId=db3a30432b57a660012b81890ade72d2&fileId=db3a30432b57a660012b8193af2872eb
footprint INF-PG-TO252-3-313_N (DPAK, 3-Leads, Body 6.5x6.12mm, Pitch 2.28mm, IPC Medium Density)
footprint INF-PG-TO252-3-313_L (DPAK, 3-Leads, Body 6.5x6.12mm, Pitch 2.28mm, IPC High Density)
footprint INF-PG-TO252-3-313_M (DPAK, 3-Leads, Body 6.5x6.12mm, Pitch 2.28mm, IPC Low Density)
pins: 1 GATE, 2 DRAIN, 3 SOURCE

## IPD50R1K4CE
designator Q?
N-Channel CoolMOS CE Power-Transistor, 500 V VDS, 3.1 A ID, -55 to 150 degC, PG-TO252-3-313, Reel, Green; Manufacturer: Infineon; PartNumber: IPD50R1K4CE; Green: TRUE; ID (max): 3.1 A; IDpuls (max): 8.8 A; Polarity: N; Ptot (max): 25 W; QG: 8.2 nC; RDS (on) (max): 1,400 mOhm; Rth: 4.91 K/W; RthJA (max): 62 K/W; VDS (max): 500 V; VGS(th) (max): 3.5 V; VGS(th) (min): 2.5 V; DatasheetVersion: Rev. 2.1; PackageVersion: Oct-10; PackageReference: PG-TO252-3-313; PackageDescription: 3-Pin Plastic (Green) Transistor Single Outline Package, 6.5 x 6.12 mm Body, 2.28 mm Pitch; Supplier 1: Digi-Key; Supplier Part Number 1: IPD50R1K4CETR-ND; Supplier 2: Digi-Key; Supplier Part Number 2: IPD50R1K4CECT-ND; Supplier 3: Digi-Key; Supplier Part Number 3: IPD50R1K4CEDKR-ND; Packing: Reel; RthJC (max): 4.91 K/W; Technology: CoolMOS CE; Mounting Technology: Surface Mount; ComponentLink1Description: Manufacturer URL; ComponentLink1URL: http://www.infineon.com/; ComponentLink2Description: Datasheet; ComponentLink2URL: http://www.infineon.com/dgdl/IPx50R1K4CE_2_1.pdf?folderId=db3a3043156fd5730115c736bcc70ff2&fileId=db3a304339dcf4b10139e7c997862ca7; ComponentLink3Description: Package Specification; ComponentLink3URL: http://www.infineon.com/dgdl/PG-TO252-3-313-Package_Overview.pdf?folderId=db3a30432b57a660012b81890ade72d2&fileId=db3a30432b57a660012b8193af2872eb
footprint INF-PG-TO252-3-313_N (DPAK, 3-Leads, Body 6.5x6.12mm, Pitch 2.28mm, IPC Medium Density)
footprint INF-PG-TO252-3-313_L (DPAK, 3-Leads, Body 6.5x6.12mm, Pitch 2.28mm, IPC High Density)
footprint INF-PG-TO252-3-313_M (DPAK, 3-Leads, Body 6.5x6.12mm, Pitch 2.28mm, IPC Low Density)
pins: 1 GATE, 2 DRAIN, 3 SOURCE

## IPD50R2K0CE
designator Q?
N-Channel CoolMOS CE Power-Transistor, 500 V VDS, 2.4 A ID, -55 to 150 degC, PG-TO252-3-313, Reel, Green; Manufacturer: Infineon; PartNumber: IPD50R2K0CE; Green: TRUE; ID (max): 2.4 A; IDpuls (max): 6.1 A; Polarity: N; Ptot (max): 22 W; QG: 6 nC; RDS (on) (max): 2,000 mOhm; Rth: 6.66 K/W; RthJA (max): 62 K/W; RthJC (max): 5.7 K/W; VDS (max): 500 V; VGS(th) (max): 3.5 V; VGS(th) (min): 2.5 V; DatasheetVersion: Rev. 2.0; PackageVersion: Oct-10; PackageReference: PG-TO252-3-313; PackageDescription: 3-Pin Plastic (Green) Transistor Single Outline Package, 6.5 x 6.12 mm Body, 2.28 mm Pitch; Supplier 1: Mouser; Supplier Part Number 1: N/A; Packing: Reel; Technology: CoolMOS CE; Mounting Technology: Surface Mount; ComponentLink1Description: Manufacturer URL; ComponentLink1URL: http://www.infineon.com/; ComponentLink2Description: Datasheet; ComponentLink2URL: http://www.infineon.com/dgdl/IPx50R2K0CE_2_0.pdf?folderId=db3a3043163797a6011637d4bae7003b&fileId=db3a304339dcf4b10139e81130a92d32; ComponentLink3Description: Package Specification; ComponentLink3URL: http://www.infineon.com/dgdl/PG-TO252-3-313-Package_Overview.pdf?folderId=db3a30432b57a660012b81890ade72d2&fileId=db3a30432b57a660012b8193af2872eb
footprint INF-PG-TO252-3-313_N (DPAK, 3-Leads, Body 6.5x6.12mm, Pitch 2.28mm, IPC Medium Density)
footprint INF-PG-TO252-3-313_L (DPAK, 3-Leads, Body 6.5x6.12mm, Pitch 2.28mm, IPC High Density)
footprint INF-PG-TO252-3-313_M (DPAK, 3-Leads, Body 6.5x6.12mm, Pitch 2.28mm, IPC Low Density)
pins: 1 GATE, 2 DRAIN, 3 SOURCE

## IPD50R3K0CE
designator Q?
N-Channel CoolMOS CE Power-Transistor, 500 V VDS, 1.7 A ID, -55 to 150 degC, PG-TO252-3-313, Reel, Green; Manufacturer: Infineon; PartNumber: IPD50R3K0CE; Green: TRUE; ID (max): 1.7 A; IDpuls (max): 4.1 A; Polarity: N; Ptot (max): 18 W; QG: 4.3 nC; RDS (on) (max): 3,000 mOhm; Rth: 9.22 K/W; RthJA (max): 62 K/W; RthJC (max): 7.1 K/W; VDS (max): 500 V; VGS(th) (max): 3.5 V; VGS(th) (min): 2.5 V; DatasheetVersion: Rev. 2.0; PackageVersion: Oct-10; PackageReference: PG-TO252-3-313; PackageDescription: 3-Pin Plastic (Green) Transistor Single Outline Package, 6.5 x 6.12 mm Body, 2.28 mm Pitch; Supplier 1: Digi-Key; Supplier Part Number 1: IPD50R3K0CETR-ND; Supplier 2: Digi-Key; Supplier Part Number 2: IPD50R3K0CECT-ND; Supplier 3: Digi-Key; Supplier Part Number 3: IPD50R3K0CEDKR-ND; Packing: Reel; Technology: CoolMOS CE; Mounting Technology: Surface Mount; ComponentLink1Description: Manufacturer URL; ComponentLink1URL: http://www.infineon.com/; ComponentLink2Description: Datasheet; ComponentLink2URL: http://www.infineon.com/dgdl/IPx50R3K0CE_2_0.pdf?folderId=db3a3043163797a6011637d4bae7003b&fileId=db3a304339dcf4b10139e7e9ff592ce4; ComponentLink3Description: Package Specification; ComponentLink3URL: http://www.infineon.com/dgdl/PG-TO252-3-313-Package_Overview.pdf?folderId=db3a30432b57a660012b81890ade72d2&fileId=db3a30432b57a660012b8193af2872eb
footprint INF-PG-TO252-3-313_N (DPAK, 3-Leads, Body 6.5x6.12mm, Pitch 2.28mm, IPC Medium Density)
footprint INF-PG-TO252-3-313_L (DPAK, 3-Leads, Body 6.5x6.12mm, Pitch 2.28mm, IPC High Density)
footprint INF-PG-TO252-3-313_M (DPAK, 3-Leads, Body 6.5x6.12mm, Pitch 2.28mm, IPC Low Density)
pins: 1 GATE, 2 DRAIN, 3 SOURCE

## IPD50R280CE
designator Q?
N-Channel CoolMOS CE Power-Transistor, 500 V VDS, 13 A ID, -55 to 150 degC, PG-TO252-3-313, Reel, Green; Manufacturer: Infineon; PartNumber: IPD50R280CE; Green: TRUE; ID (max): 13 A; IDpuls (max): 42.9 A; Polarity: N; Ptot (max): 92 W; QG: 32.6 nC; RDS (on) (max): 280 mOhm; Rth: 1.36 K/W; RthJA (max): 62 K/W; VDS (max): 500 V; VGS(th) (max): 3.5 V; VGS(th) (min): 2.5 V; DatasheetVersion: Rev. 2.0; PackageVersion: Oct-10; PackageReference: PG-TO252-3-313; PackageDescription: 3-Pin Plastic (Green) Transistor Single Outline Package, 6.5 x 6.12 mm Body, 2.28 mm Pitch; Supplier 1: Mouser; Supplier Part Number 1: 726-IPD50R280CE; Supplier 2: Digi-Key; Supplier Part Number 2: IPD50R280CEINTR-ND; Supplier 3: Digi-Key; Supplier Part Number 3: IPD50R280CEINCT-ND; Supplier 4: Digi-Key; Supplier Part Number 4: IPD50R280CEINDKR-ND; Packing: Reel; RthJC (max): 1.36 K/W; Technology: CoolMOS CE; Mounting Technology: Surface Mount; ComponentLink1Description: Manufacturer URL; ComponentLink1URL: http://www.infineon.com/; ComponentLink2Description: Datasheet; ComponentLink2URL: http://www.infineon.com/dgdl/IPD50R280CE+2.0.pdf?folderId=db3a3043156fd5730115c736bcc70ff2&fileId=db3a3043382e8373013850fd9c9b0fae; ComponentLink3Description: Package Specification; ComponentLink3URL: http://www.infineon.com/dgdl/PG-TO252-3-313-Package_Overview.pdf?folderId=db3a30432b57a660012b81890ade72d2&fileId=db3a30432b57a660012b8193af2872eb
footprint INF-PG-TO252-3-313_N (DPAK, 3-Leads, Body 6.5x6.12mm, Pitch 2.28mm, IPC Medium Density)
footprint INF-PG-TO252-3-313_L (DPAK, 3-Leads, Body 6.5x6.12mm, Pitch 2.28mm, IPC High Density)
footprint INF-PG-TO252-3-313_M (DPAK, 3-Leads, Body 6.5x6.12mm, Pitch 2.28mm, IPC Low Density)
pins: 1 GATE, 2 DRAIN, 3 SOURCE

## IPD50R380CE
designator Q?
N-Channel CoolMOS CE Power-Transistor, 500 V VDS, 9.9 A ID, -55 to 150 degC, PG-TO252-3-313, Reel, Green; Manufacturer: Infineon; PartNumber: IPD50R380CE; Green: TRUE; ID (max): 9.9 A; IDpuls (max): 32.4 A; Polarity: N; Ptot (max): 73 W; QG: 24.8 nC; RDS (on) (max): 380 mOhm; Rth: 1.71 K/W; RthJA (max): 62 K/W; VDS (max): 500 V; VGS(th) (max): 3.5 V; VGS(th) (min): 2.5 V; DatasheetVersion: Rev. 2.0; PackageVersion: Oct-10; PackageReference: PG-TO252-3-313; PackageDescription: 3-Pin Plastic (Green) Transistor Single Outline Package, 6.5 x 6.12 mm Body, 2.28 mm Pitch; Supplier 1: Digi-Key; Supplier Part Number 1: IPD50R380CETR-ND; Supplier 2: Digi-Key; Supplier Part Number 2: IPD50R380CECT-ND; Supplier 3: Digi-Key; Supplier Part Number 3: IPD50R380CEDKR-ND; Packing: Reel; RthJC (max): 1.71 K/W; Technology: CoolMOS CE; Mounting Technology: Surface Mount; ComponentLink1Description: Manufacturer URL; ComponentLink1URL: http://www.infineon.com/; ComponentLink2Description: Datasheet; ComponentLink2URL: http://www.infineon.com/dgdl/IPD50R380CE+2.0.pdf?folderId=db3a3043163797a6011637d4bae7003b&fileId=db3a304339d29c450139d3e94445025a; ComponentLink3Description: Package Specification; ComponentLink3URL: http://www.infineon.com/dgdl/PG-TO252-3-313-Package_Overview.pdf?folderId=db3a30432b57a660012b81890ade72d2&fileId=db3a30432b57a660012b8193af2872eb
footprint INF-PG-TO252-3-313_N (DPAK, 3-Leads, Body 6.5x6.12mm, Pitch 2.28mm, IPC Medium Density)
footprint INF-PG-TO252-3-313_L (DPAK, 3-Leads, Body 6.5x6.12mm, Pitch 2.28mm, IPC High Density)
footprint INF-PG-TO252-3-313_M (DPAK, 3-Leads, Body 6.5x6.12mm, Pitch 2.28mm, IPC Low Density)
pins: 1 GATE, 2 DRAIN, 3 SOURCE

## IPD50R399CP
designator Q?
N-Channel CoolMOS Power-Transistor, 500 V VDS, 9 A ID, -55 to 150 degC, PG-TO252-3-313, Reel, Green; Manufacturer: Infineon; PartNumber: IPD50R399CP; Green: TRUE; ID (max): 9 A; IDpuls (max): 20 A; Polarity: N; Ptot (max): 83 W; QG: 17 nC; RDS (on) (max): 399 mOhm; Rth: 1.9 K/W; RthJA (max): 62 K/W; RthJC (max): 1.5 K/W; VDS (max): 500 V; VGS(th) (max): 3.5 V; VGS(th) (min): 2.5 V; DatasheetVersion: Rev. 2.0; PackageVersion: Jan-10; PackageReference: PG-TO252-3-1; PackageDescription: 3-Pin Plastic (Green) Transistor Single Outline Package, 6.5 x 6.12 mm Body, 2.28 mm Pitch; Supplier 1: Mouser; Supplier Part Number 1: 726-IPD50R399CP; Supplier 2: Newark; Supplier Part Number 2: 33P7141; Supplier 3: Farnell; Supplier Part Number 3: 1664024; Supplier 4: Farnell; Supplier Part Number 4: 1664024RL; Supplier 5: Digi-Key; Supplier Part Number 5: IPD50R399CP-ND; Packing: Reel; Technology: CoolMOS CP; Mounting Technology: Surface Mount; ComponentLink1Description: Manufacturer URL; ComponentLink1URL: http://www.infineon.com/; ComponentLink2Description: Datasheet; ComponentLink2URL: http://www.infineon.com/dgdl/IPD50R399CP_rev2%2B1b.pdf?folderId=db3a3043163797a6011637d4bae7003b&fileId=db3a30432b16d655012b19cbfae82d36; ComponentLink3Description: Package Specification; ComponentLink3URL: http://www.infineon.com/dgdl/TLE42744_DS_11.pdf?folderId=db3a304318f3fe290118f5a433570040&fileId=db3a304327b897500128012ccafe37d2&sId=db3a30443d67b5ca013d83f7c0ea327b
footprint INF-PG-TO252-3-1_N (DPAK, 3-Leads, Body 6.525x6.12mm, Pitch 2.28mm, IPC Medium Density)
footprint INF-PG-TO252-3-1_L (DPAK, 3-Leads, Body 6.525x6.12mm, Pitch 2.28mm, IPC High Density)
footprint INF-PG-TO252-3-1_M (DPAK, 3-Leads, Body 6.525x6.12mm, Pitch 2.28mm, IPC Low Density)
pins: 1 GATE, 2 DRAIN, 3 SOURCE

## IPD50R500CE
designator Q?
N-Channel CoolMOS CE Power-Transistor, 500 V VDS, 7.6 A ID, -55 to 150 degC, PG-TO252-3-313, Reel, Green; Manufacturer: Infineon; PartNumber: IPD50R500CE; Green: TRUE; ID (max): 7.6 A; IDpuls (max): 24 A; Polarity: N; Ptot (max): 57 W; QG: 18.7 nC; RDS (on) (max): 500 mOhm; Rth: 2.19 K/W; RthJA (max): 62 K/W; VDS (max): 500 V; VGS(th) (max): 3.5 V; VGS(th) (min): 2.5 V; DatasheetVersion: Rev. 2.0; PackageVersion: Oct-10; PackageReference: PG-TO252-3-313; PackageDescription: 3-Pin Plastic (Green) Transistor Single Outline Package, 6.5 x 6.12 mm Body, 2.28 mm Pitch; Supplier 1: Mouser; Supplier Part Number 1: 726-IPD50R500CE; Supplier 2: Digi-Key; Supplier Part Number 2: IPD50R500CEINTR-ND; Supplier 3: Digi-Key; Supplier Part Number 3: IPD50R500CEINCT-ND; Supplier 4: Digi-Key; Supplier Part Number 4: IPD50R500CEINDKR-ND; Packing: Reel; RthJC (max): 2.19 K/W; Technology: CoolMOS CE; Mounting Technology: Surface Mount; ComponentLink1Description: Manufacturer URL; ComponentLink1URL: http://www.infineon.com/; ComponentLink2Description: Datasheet; ComponentLink2URL: http://www.infineon.com/dgdl/IPD50R500CE+2.0.pdf?folderId=db3a3043156fd5730115c736bcc70ff2&fileId=db3a3043382e83730138514ff7881004; ComponentLink3Description: Package Specification; ComponentLink3URL: http://www.infineon.com/dgdl/PG-TO252-3-313-Package_Overview.pdf?folderId=db3a30432b57a660012b81890ade72d2&fileId=db3a30432b57a660012b8193af2872eb
footprint INF-PG-TO252-3-313_N (DPAK, 3-Leads, Body 6.5x6.12mm, Pitch 2.28mm, IPC Medium Density)
footprint INF-PG-TO252-3-313_L (DPAK, 3-Leads, Body 6.5x6.12mm, Pitch 2.28mm, IPC High Density)
footprint INF-PG-TO252-3-313_M (DPAK, 3-Leads, Body 6.5x6.12mm, Pitch 2.28mm, IPC Low Density)
pins: 1 GATE, 2 DRAIN, 3 SOURCE

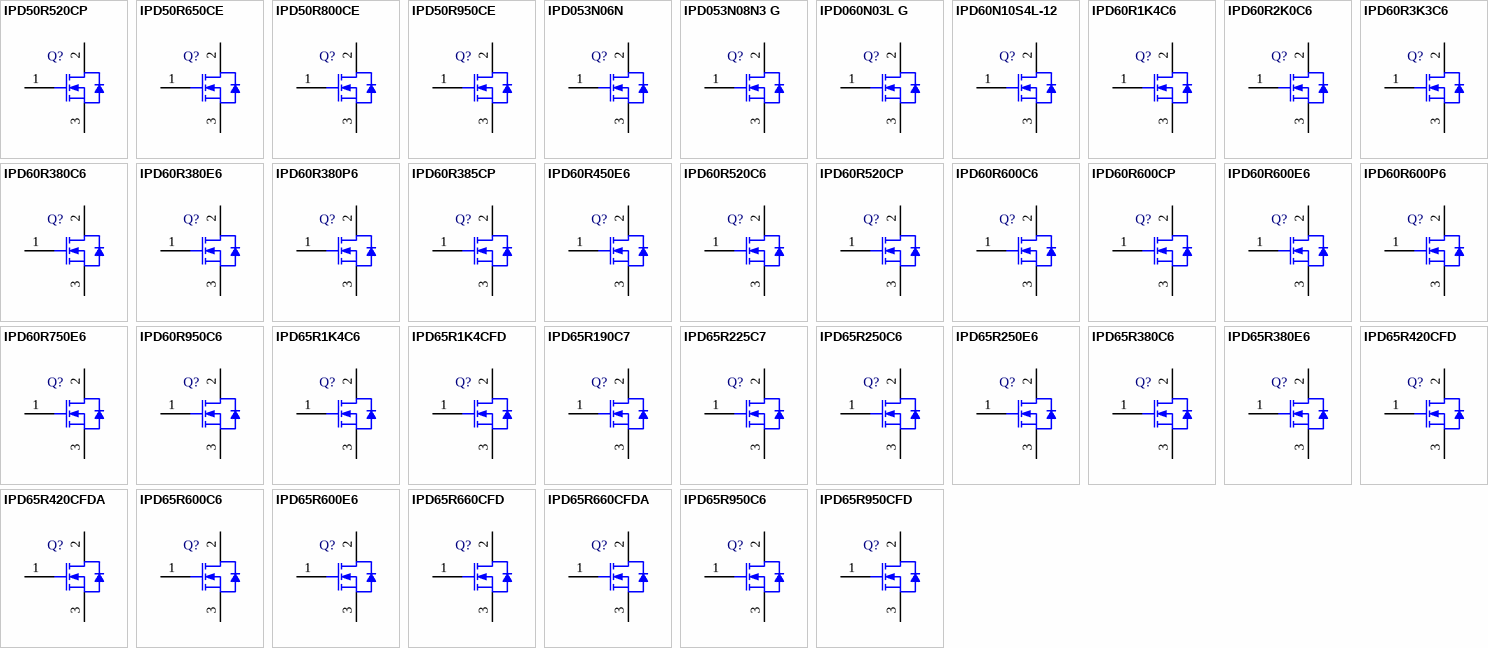
[diagram p18: symbols IPD50R520CP to IPD65R950CFD]